# EAGLE library part BD6211F (library BD6211F)
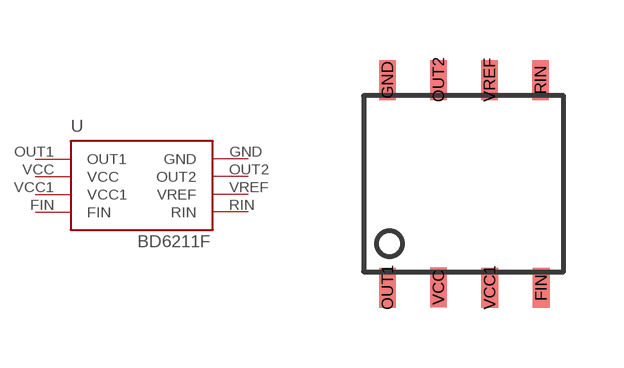
[diagram p0: symbol with the pads of SOP8; footprint SOP8]

Designator prefix -

## BD6211F  [SOP8]
FIN  FIN
GND  GND
OUT1  OUT1
OUT2  OUT2
RIN  RIN
VCC  VCC
VCC1  VCC1
VREF  VREF

## Footprint SOP8 (pad centres in mm)
smd 0.42 x 1: FIN 4.44,-0.4; GND 0.6,4.8; OUT1 0.6,-0.4; OUT2 1.875,4.8; RIN 4.425,4.8; VCC 1.875,-0.395; VCC1 3.155,-0.4; VREF 3.15,4.8